# Altium schematic symbol library Schlib1.SchLib: 7 symbols
Pins are listed as number, name and electrical type; pins without a type are passive.

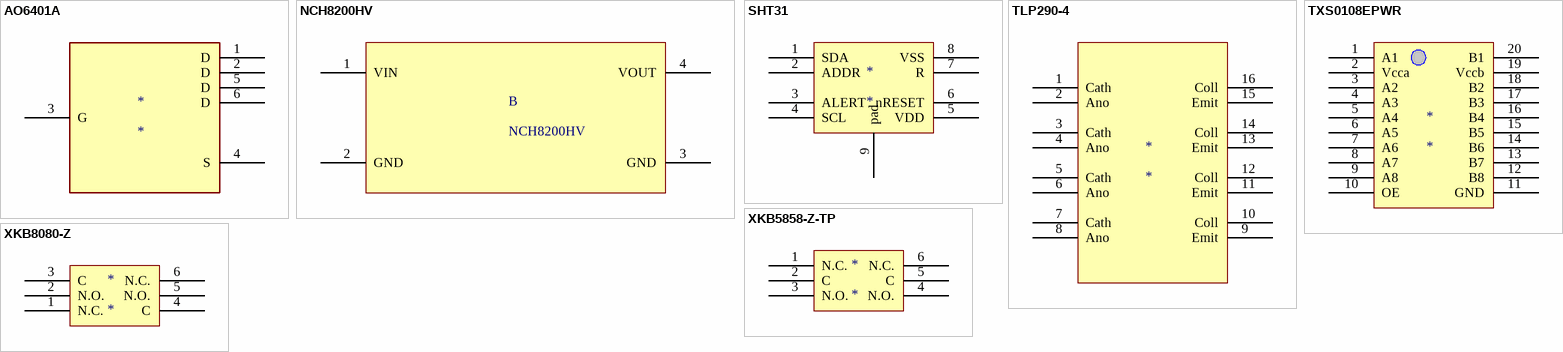
[diagram p0: symbols AO6401A to XKB8080-Z]

## AO6401A
designator *
pins: 1 D, 2 D, 3 G, 4 S, 5 D, 6 D

## NCH8200HV
designator B
pins: 1 VIN, 2 GND, 3 GND, 4 VOUT

## SHT31
designator *
pins: 1 SDA, 2 ADDR, 3 ALERT, 4 SCL, 5 VDD, 6 nRESET, 7 R, 8 VSS, 9 pad

## TLP290-4
designator *
pins: 1 Cath, 2 Ano, 3 Cath, 4 Ano, 5 Cath, 6 Ano, 7 Cath, 8 Ano, 9 Emit, 10 Coll, 11 Emit, 12 Coll, 13 Emit, 14 Coll, 15 Emit, 16 Coll

## TXS0108EPWR
designator *
pins: 1 A1, 2 Vcca, 3 A2, 4 A3, 5 A4, 6 A5, 7 A6, 8 A7, 9 A8, 10 OE, 11 GND, 12 B8, 13 B7, 14 B6, 15 B5, 16 B4, 17 B3, 18 B2, 19 Vccb, 20 B1

## XKB5858-Z-TP
designator *
pins: 1 N.C., 2 C, 3 N.O., 4 N.O., 5 C, 6 N.C.

## XKB8080-Z
designator *
pins: 1 N.C., 2 N.O., 3 C, 4 C, 5 N.O., 6 N.C.